# Altium schematic symbol library resistors.SchLib: 5 symbols
Pins are listed as number, name and electrical type; pins without a type are passive.

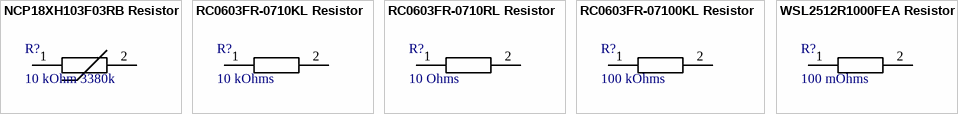
[diagram p0: symbols NCP18XH103F03RB Resistor to WSL2512R1000FEA Resistor]

## NCP18XH103F03RB Resistor
designator R?, comment 10 kOhm 3380k
THERMISTOR NTC 10KOHM 3380K 0603
footprint NCP18XH103F03RB
pins: 1, 2

## RC0603FR-0710KL Resistor
designator R?, comment 10 kOhms
10 kOhms ±1% 0.1W, 1/10W Chip Resistor 0603 (1608 Metric) Moisture Resistant Thick Film
footprint RC0603FR-0710KL
pins: 1, 2

## RC0603FR-0710RL Resistor
designator R?, comment 10 Ohms
10 Ohms ±1% 0.1W, 1/10W Chip Resistor 0603 (1608 Metric) Moisture Resistant Thick Film
footprint RC0603FR-0710RL Resistor (Chip Resistor, 2-Leads, Body 1.70x0.90mm, IPC Medium Density)
pins: 1, 2

## RC0603FR-07100KL Resistor
designator R?, comment 100 kOhms
100 kOhms ±1% 0.1W, 1/10W Chip Resistor 0603 (1608 Metric) Moisture Resistant Thick Film
footprint RC0603FR-07100KL Resistor
pins: 1, 2

## WSL2512R1000FEA Resistor
designator R?, comment 100 mOhms
100 mOhms ±1% 1W Chip Resistor 2512 (6432 Metric) Anti-Sulfur, Automotive AEC-Q200, Current Sense, Moisture Resistant, Pulse Withstanding Metal Element
footprint WSL2512R1000FEA Resistor
pins: 1, 2